# EAGLE library part AT32UC3B1512 (library work)
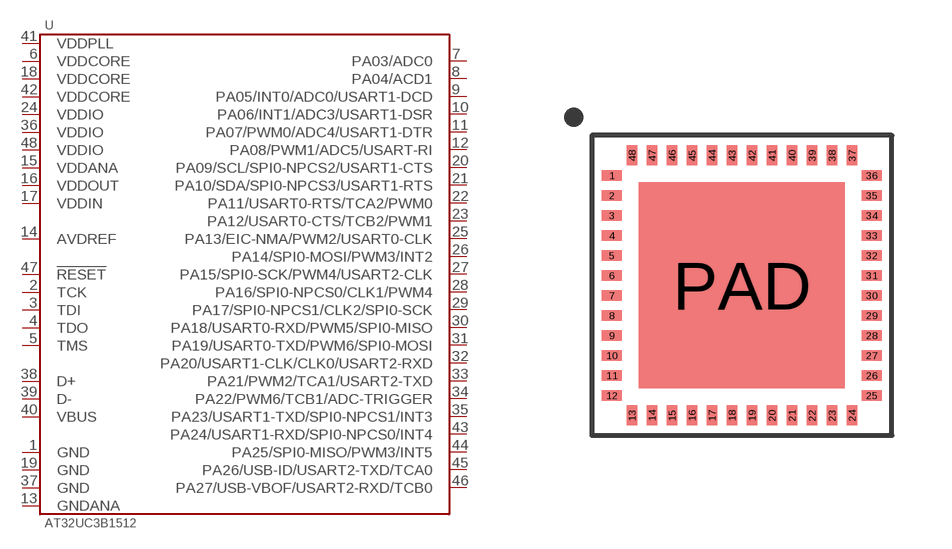
[diagram p92: symbol with the pads of VQFN-48; footprint VQFN-48]

Designator prefix U

## AT32UC3B1512  [VQFN-48]
1  GND
2  TCK
3  TDI
4  TDO
5  TMS
6  VDDCORE
7  PA03/ADC0
8  PA04/ACD1
9  PA05/INT0/ADC0/USART1-DCD
10  PA06/INT1/ADC3/USART1-DSR
11  PA07/PWM0/ADC4/USART1-DTR
12  PA08/PWM1/ADC5/USART-RI
13  GNDANA
14  AVDREF
15  VDDANA
16  VDDOUT
17  VDDIN
18  VDDCORE
19  GND
20  PA09/SCL/SPI0-NPCS2/USART1-CTS
21  PA10/SDA/SPI0-NPCS3/USART1-RTS
22  PA11/USART0-RTS/TCA2/PWM0
23  PA12/USART0-CTS/TCB2/PWM1
24  VDDIO
25  PA13/EIC-NMA/PWM2/USART0-CLK
26  PA14/SPI0-MOSI/PWM3/INT2
27  PA15/SPI0-SCK/PWM4/USART2-CLK
28  PA16/SPI0-NPCS0/CLK1/PWM4
29  PA17/SPI0-NPCS1/CLK2/SPI0-SCK
30  PA18/USART0-RXD/PWM5/SPI0-MISO
31  PA19/USART0-TXD/PWM6/SPI0-MOSI
32  PA20/USART1-CLK/CLK0/USART2-RXD
33  PA21/PWM2/TCA1/USART2-TXD
34  PA22/PWM6/TCB1/ADC-TRIGGER
35  PA23/USART1-TXD/SPI0-NPCS1/INT3
36  VDDIO
37  GND
38  D+
39  D-
40  VBUS
41  VDDPLL
42  VDDCORE
43  PA24/USART1-RXD/SPI0-NPCS0/INT4
44  PA25/SPI0-MISO/PWM3/INT5
45  PA26/USB-ID/USART2-TXD/TCA0
46  PA27/USB-VBOF/USART2-RXD/TCB0
47  !RESET
48  VDDIO

## Footprint VQFN-48 (pad centres in mm)
smd 0.5 x 0.27: 1 -3.25,2.75; 2 -3.25,2.25; 3 -3.25,1.75; 4 -3.25,1.25; 5 -3.25,0.75; 6 -3.25,0.25; 7 -3.25,-0.25; 8 -3.25,-0.75; 9 -3.25,-1.25; 10 -3.25,-1.75; 11 -3.25,-2.25; 12 -3.25,-2.75; 25 3.25,-2.75; 26 3.25,-2.25; 27 3.25,-1.75; 28 3.25,-1.25; 29 3.25,-0.75; 30 3.25,-0.25; 31 3.25,0.25; 32 3.25,0.75; 33 3.25,1.25; 34 3.25,1.75; 35 3.25,2.25; 36 3.25,2.75
smd 0.27 x 0.5: 13 -2.75,-3.25; 14 -2.25,-3.25; 15 -1.75,-3.25; 16 -1.25,-3.25; 17 -0.75,-3.25; 18 -0.25,-3.25; 19 0.25,-3.25; 20 0.75,-3.25; 21 1.25,-3.25; 22 1.75,-3.25; 23 2.25,-3.25; 24 2.75,-3.25; 37 2.75,3.25; 38 2.25,3.25; 39 1.75,3.25; 40 1.25,3.25; 41 0.75,3.25; 42 0.25,3.25; 43 -0.25,3.25; 44 -0.75,3.25; 45 -1.25,3.25; 46 -1.75,3.25; 47 -2.25,3.25; 48 -2.75,3.25
smd 5.15 x 5.15: PAD 0,0